# EAGLE library part AD7478 (library FM_transmitter)
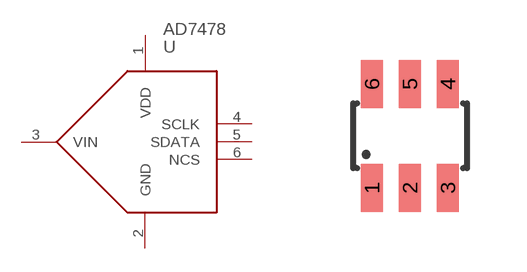
[diagram p6: symbol with the pads of SOT23-6; footprint SOT23-6]

Designator prefix -

## AD7478  [SOT23-6]
1  VDD
2  GND
3  VIN
4  SCLK
5  SDATA
6  NCS

## Footprint SOT23-6 (pad centres in mm)
smd 0.55 x 1.2: 1 -0.95,-1.3; 2 0,-1.3; 3 0.95,-1.3; 4 0.95,1.3; 5 0,1.3; 6 -0.95,1.3